# Altium integrated library Infineon_Power_Silicon_Carbide_(SiC).IntLib: 74 symbols (part 2 of 3)
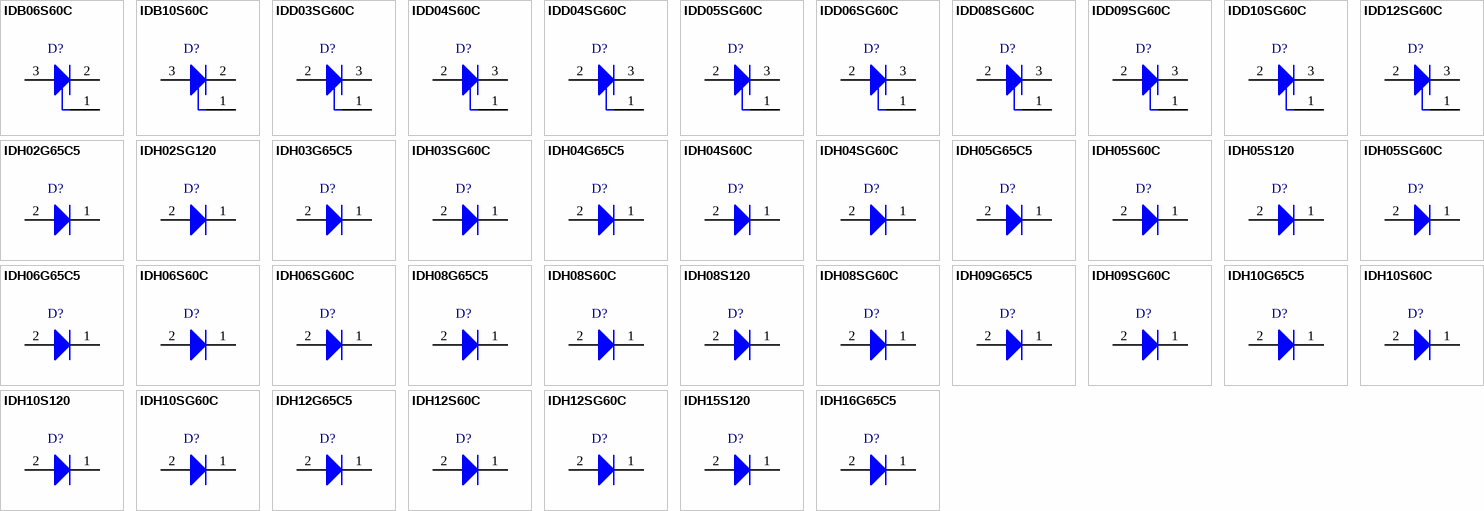
[diagram p3: symbols IDB06S60C to IDH16G65C5]

## IDH12G65C5
designator D?
5th Generation ThinQ SiC Schottky Diode, -55 to 175 degC, PG-TO220-2-1, Tube; Manufacturer: Infineon; PartNumber: IDH12G65C5; CT (typ): 360 pF; IF (typ): 12 A; IF,SM (max): 97 A; IR (max): 110 uA; Ptot (max): 104 W; QC (typ): 18 nC; RthJC (max): 1.5 K/W; VDC: 650 V; VF (typ): 1.5 V; DatasheetVersion: Rev. 2.2; PackageVersion: Rev. 01, 10/2008; PackageReference: PG-TO220-2-1; PackageDescription: 2-Pin Plastic (Green) Transistor Single Outline Package, Body 9.25 x 10 mm, Pitch 5.08 mm; Packing: Tube; Technology: thinQ! 5G; Mounting Technology: Through Hole; ComponentLink1Description: Manufacturer URL; ComponentLink1URL: http://www.infineon.com/; ComponentLink2Description: Datasheet; ComponentLink2URL: http://www.infineon.com/dgdl/IDH12G65C5_Final_Datasheet_v2_2.pdf?folderId=db3a30431ddc9372011ed0010fda1bd3&fileId=db3a30433a047ba0013a06bcacb10185; ComponentLink3Description: Package Specification; ComponentLink3URL: http://www.infineon.com/dgdl/IDP09E120_v2_3G%5B1%5D.pdf?folderId=db3a304314dca38901151224afae0c96&fileId=db3a30432313ff5e01237a7d849d7c11
footprint INF-PG-TO220-2-1 (FM, 2-Leads, Body 10x4.4mm, Pitch 5.08mm)
pins: 1 K, 2 A

## IDH12S60C
designator D?
2nd Generation ThinQ SiC Schottky Diode, -55 to 175 degC, PG-TO220-2-1, Tube,Green; Manufacturer: Infineon; PartNumber: IDH12S60C; CT (typ): 530 pF; IF (typ): 12 A; IF,SM (max): 98 A; IR (max): 160 uA; Ptot (max): 115 W; QC (typ): 30 nC; RthJC (max): 1.3 K/W; VDC: 600 V; VF (typ): 1.5 V; DatasheetVersion: Rev. 2.1; PackageVersion: Rev. 01, 10/2008; PackageReference: PG-TO220-2-1; PackageDescription: 2-Pin Plastic (Green) Transistor Single Outline Package, Body 9.25 x 10 mm, Pitch 5.08 mm; Supplier 1: Mouser; Supplier Part Number 1: 726-IDH12S60C; Supplier 2: Newark; Supplier Part Number 2: 12T7359; Supplier 3: Farnell; Supplier Part Number 3: 1844991; Supplier 4: Digi-Key; Supplier Part Number 4: IDH12S60C-ND; Packing: Tube; Technology: thinQ! 2G; Mounting Technology: Through Hole; ComponentLink1Description: Manufacturer URL; ComponentLink1URL: http://www.infineon.com/; ComponentLink2Description: Datasheet; ComponentLink2URL: http://www.infineon.com/dgdl/IDH12S60C+rev.2.1.pdf?folderId=db3a30431d8a6b3c011dbeca72db281a&fileId=db3a3043284aacd80128b06fc9935624; ComponentLink3Description: Package Specification; ComponentLink3URL: http://www.infineon.com/dgdl/IDP09E120_v2_3G%5B1%5D.pdf?folderId=db3a304314dca38901151224afae0c96&fileId=db3a30432313ff5e01237a7d849d7c11
footprint INF-PG-TO220-2-1 (FM, 2-Leads, Body 10x4.4mm, Pitch 5.08mm)
pins: 1 K, 2 A

## IDH12SG60C
designator D?
3rd Generation ThinQ SiC Schottky Diode, -55 to 175 degC, PG-TO220-2-1, Tube; Manufacturer: Infineon; PartNumber: IDH12SG60C; CT (typ): 310 pF; IF (typ): 12 A; IF,SM (max): 59 A; IR (max): 100 uA; Ptot (max): 125 W; QC (typ): 19 nC; RthJC (max): 1.2 K/W; VDC: 600 V; VF (typ): 1.8 V; DatasheetVersion: Rev. 2.3; PackageVersion: Rev. 01, 10/2008; PackageReference: PG-TO220-2-1; PackageDescription: 2-Pin Plastic (Green) Transistor Single Outline Package, Body 9.25 x 10 mm, Pitch 5.08 mm; Supplier 1: Mouser; Supplier Part Number 1: 726-IDH12SG60C; Supplier 2: Newark; Supplier Part Number 2: 22T5137; Supplier 3: Farnell; Supplier Part Number 3: 1854559; Supplier 4: Digi-Key; Supplier Part Number 4: IDH12SG60C-ND; Packing: Tube; Technology: thinQ! 3G; Mounting Technology: Through Hole; ComponentLink1Description: Manufacturer URL; ComponentLink1URL: http://www.infineon.com/; ComponentLink2Description: Datasheet; ComponentLink2URL: http://www.infineon.com/dgdl/IDH12SG60C_rev2.3.pdf?folderId=db3a304312bae05f0112bd10dab60002&fileId=db3a30431f848401011fad82e993468c; ComponentLink3Description: Package Specification; ComponentLink3URL: http://www.infineon.com/dgdl/IDP09E120_v2_3G%5B1%5D.pdf?folderId=db3a304314dca38901151224afae0c96&fileId=db3a30432313ff5e01237a7d849d7c11
footprint INF-PG-TO220-2-1 (FM, 2-Leads, Body 10x4.4mm, Pitch 5.08mm)
pins: 1 K, 2 A

## IDH15S120
designator D?
ThinQ SiC Schottky Diode, -55 to 175 degC, PG-TO220-2-1, Tube; Manufacturer: Infineon; PartNumber: IDH15S120; CT (typ): 750 pF; IF (typ): 15 A; IF,SM (max): 78 A; IR (max): 360 uA; Ptot (max): 187.5 W; QC (typ): 54 nC; RthJC (max): 0.8 K/W; VDC: 1,200 V; VF (typ): 1.65 V; DatasheetVersion: Rev. 2.0; PackageVersion: Rev. 01, 10/2008; PackageReference: PG-TO220-2-1; PackageDescription: 2-Pin Plastic (Green) Transistor Single Outline Package, Body 9.25 x 10 mm, Pitch 5.08 mm; Supplier 1: Mouser; Supplier Part Number 1: 726-IDH15S120; Supplier 2: Newark; Supplier Part Number 2: 12T7360; Supplier 3: Farnell; Supplier Part Number 3: 1844987; Supplier 4: Digi-Key; Supplier Part Number 4: IDH15S120-ND; Packing: Tube; Technology: thinQ! 2G; Mounting Technology: Through Hole; ComponentLink1Description: Manufacturer URL; ComponentLink1URL: http://www.infineon.com/; ComponentLink2Description: Datasheet; ComponentLink2URL: http://www.infineon.com/dgdl/IDH15S120_Rev2.pdf?folderId=db3a30431d8a6b3c011dbeca72db281a&fileId=db3a30431f848401011ff4d334dc532b; ComponentLink3Description: Package Specification; ComponentLink3URL: http://www.infineon.com/dgdl/IDP09E120_v2_3G%5B1%5D.pdf?folderId=db3a304314dca38901151224afae0c96&fileId=db3a30432313ff5e01237a7d849d7c11
footprint INF-PG-TO220-2-1 (FM, 2-Leads, Body 10x4.4mm, Pitch 5.08mm)
pins: 1 K, 2 A

## IDH16G65C5
designator D?
5th Generation ThinQ SiC Schottky Diode, -55 to 175 degC, PG-TO220-2-1, Tube, Green; Manufacturer: Infineon; PartNumber: IDH16G65C5; CT (typ): 470 pF; IF (typ): 16 A; IF,SM (max): 124 A; IR (max): 150 uA; Ptot (max): 129 W; QC (typ): 23 nC; RthJC (max): 1.2 K/W; VDC: 650 V; VF (typ): 1.5 V; DatasheetVersion: Rev. 2.2; PackageVersion: Rev. 01, 10/2008; PackageReference: PG-TO220-2-1; PackageDescription: 2-Pin Plastic (Green) Transistor Single Outline Package, Body 9.25 x 10 mm, Pitch 5.08 mm; Supplier 1: Digi-Key; Supplier Part Number 1: IDH16G65C5-ND; Packing: Tube; Technology: thinQ! 5G; Mounting Technology: Through Hole; ComponentLink1Description: Manufacturer URL; ComponentLink1URL: http://www.infineon.com/; ComponentLink2Description: Datasheet; ComponentLink2URL: http://www.infineon.com/dgdl/IDH16G65C5_Final_Datasheet_v2_2.pdf?folderId=db3a30431ddc9372011ed0010fda1bd3&fileId=db3a30433a047ba0013a06c7efb201a1; ComponentLink3Description: Package Specification; ComponentLink3URL: http://www.infineon.com/dgdl/IDP09E120_v2_3G%5B1%5D.pdf?folderId=db3a304314dca38901151224afae0c96&fileId=db3a30432313ff5e01237a7d849d7c11
footprint INF-PG-TO220-2-1 (FM, 2-Leads, Body 10x4.4mm, Pitch 5.08mm)
pins: 1 K, 2 A

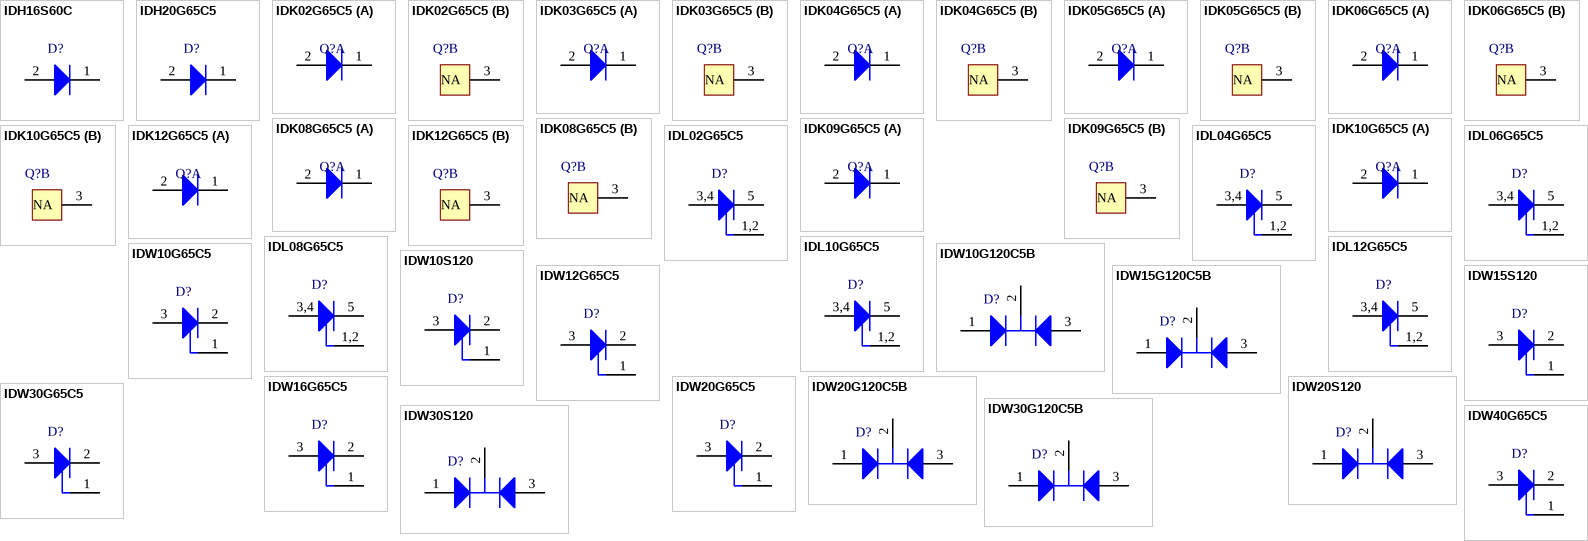
[diagram p1: symbols IDH16S60C to IDW40G65C5]

## IDH16S60C
designator D?
2nd Generation ThinQ SiC Schottky Diode, -55 to 175 degC, PG-TO220-2-1, Tube, Green; Manufacturer: Infineon; PartNumber: IDH16S60C; CT (typ): 650 pF; IF (typ): 16 A; IF,SM (max): 118 A; IR (max): 200 uA; Ptot (max): 136 W; QC (typ): 38 nC; RthJC (max): 1.1 K/W; VDC: 600 V; VF (typ): 1.5 V; DatasheetVersion: Rev. 2.1; PackageVersion: Rev. 01, 10/2008; PackageReference: PG-TO220-2-1; PackageDescription: 2-Pin Plastic (Green) Transistor Single Outline Package, Body 9.25 x 10 mm, Pitch 5.08 mm; Supplier 1: Mouser; Supplier Part Number 1: 726-IDH16S60C; Supplier 2: Newark; Supplier Part Number 2: 12T7361; Supplier 3: Farnell; Supplier Part Number 3: 1844992; Supplier 4: Digi-Key; Supplier Part Number 4: IDH16S60C-ND; Packing: Tube; Technology: thinQ! 2G; Mounting Technology: Through Hole; ComponentLink1Description: Manufacturer URL; ComponentLink1URL: http://www.infineon.com/; ComponentLink2Description: Datasheet; ComponentLink2URL: http://www.infineon.com/dgdl/IDH16S60C+rev.2.1.pdf?folderId=db3a30431d8a6b3c011dbeca72db281a&fileId=db3a3043284aacd80128b08bbbbc5635; ComponentLink3Description: Package Specification; ComponentLink3URL: http://www.infineon.com/dgdl/IDP09E120_v2_3G%5B1%5D.pdf?folderId=db3a304314dca38901151224afae0c96&fileId=db3a30432313ff5e01237a7d849d7c11
footprint INF-PG-TO220-2-1 (FM, 2-Leads, Body 10x4.4mm, Pitch 5.08mm)
pins: 1 K, 2 A

## IDH20G65C5
designator D?
5th Generation ThinQ SiC Schottky Diode, -55 to 175 degC, PG-TO220-2-1, Tube, Green; Manufacturer: Infineon; PartNumber: IDH20G65C5; CT (typ): 590 pF; IF (typ): 20 A; IF,SM (max): 142 A; IR (max): 190 uA; Ptot (max): 157 W; QC (typ): 29 nC; RthJC (max): 1 K/W; VDC: 650 V; VF (typ): 1.5 V; DatasheetVersion: Rev. 2.2; PackageVersion: Rev. 01, 10/2008; PackageReference: PG-TO220-2-1; PackageDescription: 2-Pin Plastic (Green) Transistor Single Outline Package, Body 9.25 x 10 mm, Pitch 5.08 mm; Supplier 1: Digi-Key; Supplier Part Number 1: IDH20G65C5-ND; Packing: Tube; Technology: thinQ! 5G; Mounting Technology: Through Hole; ComponentLink1Description: Manufacturer URL; ComponentLink1URL: http://www.infineon.com/; ComponentLink2Description: Datasheet; ComponentLink2URL: http://www.infineon.com/dgdl/IDH20G65C5_Final_Datasheet_v2_2.pdf?folderId=db3a30431ddc9372011ed0010fda1bd3&fileId=db3a30433a047ba0013a06d5f79701c6; ComponentLink3Description: Package Specification; ComponentLink3URL: http://www.infineon.com/dgdl/IDP09E120_v2_3G%5B1%5D.pdf?folderId=db3a304314dca38901151224afae0c96&fileId=db3a30432313ff5e01237a7d849d7c11
footprint INF-PG-TO220-2-1 (FM, 2-Leads, Body 10x4.4mm, Pitch 5.08mm)
pins: 1 K, 2 A

## IDK02G65C5
designator Q?
5th Generation thinQ!(TM) SiC Schottky Diode, 650 V VDC, 2 A IF, -55 to 175 degC, PG-TO263-2, Reel, Green; Manufacturer: Infineon; PartNumber: IDK02G65C5; CT (typ): 70 pF; Green: TRUE; IF (typ): 2 A; IF,SM (max): 23 A; IR (max): 330 uA; Ptot (max): 36 W; QC (typ): 4 nC; RthJC (max): 4.2 K/W; VDC: 650 V; VF (typ): 1.5 V; DatasheetVersion: Rev. 2.0; PackageVersion: Rev. 02, 05/2013; PackageReference: PG-TO263-2; PackageDescription: 2-Pin Plastic (Green) Transistor Single Outline Package, 10 x 9.25 mm Body; Supplier 1: Mouser; Supplier Part Number 1: N/A; Halogen-free: TRUE; Packing: Reel; Technology: thinQ!(TM) 5G (SiC-Schottky); Mounting Technology: Surface Mount; ComponentLink1Description: Manufacturer URL; ComponentLink1URL: http://www.infineon.com/; ComponentLink2Description: Datasheet; ComponentLink2URL: http://www.infineon.com/dgdl/IDK02G65C5_Final_Data_Sheet.pdf?folderId=db3a30431d8a6b3c011dbeca72db281a&fileId=db3a304342c787030142e6f880f921bd; ComponentLink3Description: Package Specification; ComponentLink3URL: http://www.infineon.com/dgdl/IDK12G65C5_Final_Data_Sheet.pdf?folderId=db3a30431d8a6b3c011dbeca72db281a&fileId=db3a304342e8be2c0142fc0b73ae4ef3
footprint INF-PG-TO263-2_V (DPAK, 3-Leads, Body 10x9.25mm)
part A pins: 1 C, 2 A
part B pins: 3 NA

## IDK03G65C5
designator Q?
5th Generation thinQ!(TM) SiC Schottky Diode, 650 V VDC, 3 A IF, -55 to 175 degC, PG-TO263-2, Reel, Green; Manufacturer: Infineon; PartNumber: IDK03G65C5; CT (typ): 100 pF; Green: TRUE; IF (typ): 3 A; IF,SM (max): 31 A; IR (max): 500 uA; Ptot (max): 42 W; QC (typ): 5 nC; RthJC (max): 3.6 K/W; VDC: 650 V; VF (typ): 1.5 V; DatasheetVersion: Rev. 2.0; PackageVersion: Rev. 02, 05/2013; PackageReference: PG-TO263-2; PackageDescription: 2-Pin Plastic (Green) Transistor Single Outline Package, 10 x 9.25 mm Body; Supplier 1: Mouser; Supplier Part Number 1: N/A; Halogen-free: TRUE; Packing: Reel; Technology: thinQ!(TM) 5G (SiC-Schottky); Mounting Technology: Surface Mount; ComponentLink1Description: Manufacturer URL; ComponentLink1URL: http://www.infineon.com/; ComponentLink2Description: Datasheet; ComponentLink2URL: http://www.infineon.com/dgdl/IDK03G65C5_Final_Data_Sheet.pdf?folderId=db3a30431d8a6b3c011dbeca72db281a&fileId=db3a304342e8be2c0142eb7618470089; ComponentLink3Description: Package Specification; ComponentLink3URL: http://www.infineon.com/dgdl/IDK12G65C5_Final_Data_Sheet.pdf?folderId=db3a30431d8a6b3c011dbeca72db281a&fileId=db3a304342e8be2c0142fc0b73ae4ef3
footprint INF-PG-TO263-2_V (DPAK, 3-Leads, Body 10x9.25mm)
part A pins: 1 C, 2 A
part B pins: 3 NA

## IDK04G65C5
designator Q?
5th Generation thinQ!(TM) SiC Schottky Diode, 650 V VDC, 4 A IF, -55 to 175 degC, PG-TO263-2, Reel, Green; Manufacturer: Infineon; PartNumber: IDK04G65C5; CT (typ): 130 pF; Green: TRUE; IF (typ): 4 A; IF,SM (max): 38 A; IR (max): 670 uA; Ptot (max): 48 W; QC (typ): 7 nC; RthJC (max): 3.1 K/W; VDC: 650 V; VF (typ): 1.5 V; DatasheetVersion: Rev. 2.0; PackageVersion: Rev. 02, 05/2013; PackageReference: PG-TO263-2; PackageDescription: 2-Pin Plastic (Green) Transistor Single Outline Package, 10 x 9.25 mm Body; Supplier 1: Mouser; Supplier Part Number 1: N/A; Halogen-free: TRUE; Packing: Reel; Technology: thinQ!(TM) 5G (SiC-Schottky); Mounting Technology: Surface Mount; ComponentLink1Description: Manufacturer URL; ComponentLink1URL: http://www.infineon.com/; ComponentLink2Description: Datasheet; ComponentLink2URL: http://www.infineon.com/dgdl/IDK04G65C5_Final_Data_Sheet.pdf?folderId=db3a30431d8a6b3c011dbeca72db281a&fileId=db3a304342e8be2c0142eb938e7500a4; ComponentLink3Description: Package Specification; ComponentLink3URL: http://www.infineon.com/dgdl/IDK12G65C5_Final_Data_Sheet.pdf?folderId=db3a30431d8a6b3c011dbeca72db281a&fileId=db3a304342e8be2c0142fc0b73ae4ef3
footprint INF-PG-TO263-2_V (DPAK, 3-Leads, Body 10x9.25mm)
part A pins: 1 C, 2 A
part B pins: 3 NA

## IDK05G65C5
designator Q?
5th Generation thinQ!(TM) SiC Schottky Diode, 650 V VDC, 5 A IF, -55 to 175 degC, PG-TO263-2, Reel, Green; Manufacturer: Infineon; PartNumber: IDK05G65C5; CT (typ): 160 pF; Green: TRUE; IF (typ): 5 A; IF,SM (max): 46 A; IR (max): 830 uA; Ptot (max): 55 W; QC (typ): 8 nC; RthJC (max): 2.7 K/W; VDC: 650 V; VF (typ): 1.5 V; DatasheetVersion: Rev. 2.0; PackageVersion: Rev. 02, 05/2013; PackageReference: PG-TO263-2; PackageDescription: 2-Pin Plastic (Green) Transistor Single Outline Package, 10 x 9.25 mm Body; Supplier 1: Mouser; Supplier Part Number 1: N/A; Halogen-free: TRUE; Packing: Reel; Technology: thinQ!(TM) 5G (SiC-Schottky); Mounting Technology: Surface Mount; ComponentLink1Description: Manufacturer URL; ComponentLink1URL: http://www.infineon.com/; ComponentLink2Description: Datasheet; ComponentLink2URL: http://www.infineon.com/dgdl/IDK05G65C5_Final_Data_Sheet.pdf?folderId=db3a30431d8a6b3c011dbeca72db281a&fileId=db3a304342e8be2c0142ec794447014e; ComponentLink3Description: Package Specification; ComponentLink3URL: http://www.infineon.com/dgdl/IDK12G65C5_Final_Data_Sheet.pdf?folderId=db3a30431d8a6b3c011dbeca72db281a&fileId=db3a304342e8be2c0142fc0b73ae4ef3
footprint INF-PG-TO263-2_V (DPAK, 3-Leads, Body 10x9.25mm)
part A pins: 1 C, 2 A
part B pins: 3 NA

## IDK06G65C5
designator Q?
5th Generation thinQ!(TM) SiC Schottky Diode, 650 V VDC, 6 A IF, -55 to 175 degC, PG-TO263-2, Reel, Green; Manufacturer: Infineon; PartNumber: IDK06G65C5; CT (typ): 190 pF; Green: TRUE; IF (typ): 6 A; IF,SM (max): 54 A; IR (max): 1100 uA; Ptot (max): 62 W; QC (typ): 10 nC; RthJC (max): 2.4 K/W; VDC: 650 V; VF (typ): 1.5 V; DatasheetVersion: Rev. 2.0; PackageVersion: Rev. 02, 05/2013; PackageReference: PG-TO263-2; PackageDescription: 2-Pin Plastic (Green) Transistor Single Outline Package, 10 x 9.25 mm Body; Supplier 1: Mouser; Supplier Part Number 1: N/A; Halogen-free: TRUE; Packing: Reel; Technology: thinQ!(TM) 5G (SiC-Schottky); Mounting Technology: Surface Mount; ComponentLink1Description: Manufacturer URL; ComponentLink1URL: http://www.infineon.com/; ComponentLink2Description: Datasheet; ComponentLink2URL: http://www.infineon.com/dgdl/IDK06G65C5_Final_Data_Sheet.pdf?folderId=db3a30431d8a6b3c011dbeca72db281a&fileId=db3a304342e8be2c0142ec85d5a1016a; ComponentLink3Description: Package Specification; ComponentLink3URL: http://www.infineon.com/dgdl/IDK12G65C5_Final_Data_Sheet.pdf?folderId=db3a30431d8a6b3c011dbeca72db281a&fileId=db3a304342e8be2c0142fc0b73ae4ef3
footprint INF-PG-TO263-2_V (DPAK, 3-Leads, Body 10x9.25mm)
part A pins: 1 C, 2 A
part B pins: 3 NA

## IDK08G65C5
designator Q?
5th Generation thinQ!(TM) SiC Schottky Diode, 650 V VDC, 8 A IF, -55 to 175 degC, PG-TO263-2, Reel, Green; Manufacturer: Infineon; PartNumber: IDK08G65C5; CT (typ): 250 pF; Green: TRUE; IF (typ): 8 A; IF,SM (max): 68 A; IR (max): 1400 uA; Ptot (max): 76 W; QC (typ): 13 nC; RthJC (max): 2 K/W; VDC: 650 V; VF (typ): 1.5 V; DatasheetVersion: Rev. 2.0; PackageVersion: Rev. 02, 05/2013; PackageReference: PG-TO263-2; PackageDescription: 2-Pin Plastic (Green) Transistor Single Outline Package, 10 x 9.25 mm Body; Supplier 1: Mouser; Supplier Part Number 1: N/A; Halogen-free: TRUE; Packing: Reel; Technology: thinQ!(TM) 5G (SiC-Schottky); Mounting Technology: Surface Mount; ComponentLink1Description: Manufacturer URL; ComponentLink1URL: http://www.infineon.com/; ComponentLink2Description: Datasheet; ComponentLink2URL: http://www.infineon.com/dgdl/IDK08G65C5_Final_Data_Sheet.pdf?folderId=db3a30431d8a6b3c011dbeca72db281a&fileId=db3a304342e8be2c0142fb993f814e2e; ComponentLink3Description: Package Specification; ComponentLink3URL: http://www.infineon.com/dgdl/IDK12G65C5_Final_Data_Sheet.pdf?folderId=db3a30431d8a6b3c011dbeca72db281a&fileId=db3a304342e8be2c0142fc0b73ae4ef3
footprint INF-PG-TO263-2_V (DPAK, 3-Leads, Body 10x9.25mm)
part A pins: 1 C, 2 A
part B pins: 3 NA

## IDK09G65C5
designator Q?
5th Generation thinQ!(TM) SiC Schottky Diode, 650 V VDC, 9 A IF, -55 to 175 degC, PG-TO263-2, Reel, Green; Manufacturer: Infineon; PartNumber: IDK09G65C5; CT (typ): 270 pF; Green: TRUE; IF (typ): 9 A; IF,SM (max): 75 A; IR (max): 1600 uA; Ptot (max): 82 W; QC (typ): 14 nC; RthJC (max): 1.8 K/W; VDC: 650 V; VF (typ): 1.5 V; DatasheetVersion: Rev. 2.0; PackageVersion: Rev. 02, 05/2013; PackageReference: PG-TO263-2; PackageDescription: 2-Pin Plastic (Green) Transistor Single Outline Package, 10 x 9.25 mm Body; Supplier 1: Mouser; Supplier Part Number 1: N/A; Halogen-free: TRUE; Packing: Reel; Technology: thinQ!(TM) 5G (SiC-Schottky); Mounting Technology: Surface Mount; ComponentLink1Description: Manufacturer URL; ComponentLink1URL: http://www.infineon.com/; ComponentLink2Description: Datasheet; ComponentLink2URL: http://www.infineon.com/dgdl/IDK09G65C5_Final_Data_Sheet.pdf?folderId=db3a30431d8a6b3c011dbeca72db281a&fileId=db3a304342e8be2c0142fbaec0384e59; ComponentLink3Description: Package Specification; ComponentLink3URL: http://www.infineon.com/dgdl/IDK12G65C5_Final_Data_Sheet.pdf?folderId=db3a30431d8a6b3c011dbeca72db281a&fileId=db3a304342e8be2c0142fc0b73ae4ef3
footprint INF-PG-TO263-2_V (DPAK, 3-Leads, Body 10x9.25mm)
part A pins: 1 C, 2 A
part B pins: 3 NA

## IDK10G65C5
designator Q?
5th Generation thinQ!(TM) SiC Schottky Diode, 650 V VDC, 10 A IF, -55 to 175 degC, PG-TO263-2, Reel, Green; Manufacturer: Infineon; PartNumber: IDK10G65C5; CT (typ): 300 pF; Green: TRUE; IF (typ): 10 A; IF,SM (max): 82 A; IR (max): 1700 uA; Ptot (max): 89 W; QC (typ): 15 nC; RthJC (max): 1.7 K/W; VDC: 650 V; VF (typ): 1.5 V; DatasheetVersion: Rev. 2.0; PackageVersion: Rev. 02, 05/2013; PackageReference: PG-TO263-2; PackageDescription: 2-Pin Plastic (Green) Transistor Single Outline Package, 10 x 9.25 mm Body; Supplier 1: Mouser; Supplier Part Number 1: N/A; Halogen-free: TRUE; Packing: Reel; Technology: thinQ!(TM) 5G (SiC-Schottky); Mounting Technology: Surface Mount; ComponentLink1Description: Manufacturer URL; ComponentLink1URL: http://www.infineon.com/; ComponentLink2Description: Datasheet; ComponentLink2URL: http://www.infineon.com/dgdl/IDK10G65C5_Final_Data_Sheet.pdf?folderId=db3a30431d8a6b3c011dbeca72db281a&fileId=db3a304342e8be2c0142fbfb87cd4ed3; ComponentLink3Description: Package Specification; ComponentLink3URL: http://www.infineon.com/dgdl/IDK12G65C5_Final_Data_Sheet.pdf?folderId=db3a30431d8a6b3c011dbeca72db281a&fileId=db3a304342e8be2c0142fc0b73ae4ef3
footprint INF-PG-TO263-2_V (DPAK, 3-Leads, Body 10x9.25mm)
part A pins: 1 C, 2 A
part B pins: 3 NA

## IDK12G65C5
designator Q?
5th Generation thinQ!(TM) SiC Schottky Diode, 650 V VDC, 12 A IF, -55 to 175 degC, PG-TO263-2, Reel, Green; Manufacturer: Infineon; PartNumber: IDK12G65C5; CT (typ): 360 pF; Green: TRUE; IF (typ): 12 A; IF,SM (max): 97 A; IR (max): 2100 uA; Ptot (max): 104 W; QC (typ): 18 nC; RthJC (max): 1.5 K/W; VDC: 650 V; VF (typ): 1.5 V; DatasheetVersion: Rev. 2.0; PackageVersion: Rev. 02, 05/2013; PackageReference: PG-TO263-2; PackageDescription: 2-Pin Plastic (Green) Transistor Single Outline Package, 10 x 9.25 mm Body; Supplier 1: Mouser; Supplier Part Number 1: N/A; Halogen-free: TRUE; Packing: Reel; Technology: thinQ!(TM) 5G (SiC-Schottky); Mounting Technology: Surface Mount; ComponentLink1Description: Manufacturer URL; ComponentLink1URL: http://www.infineon.com/; ComponentLink2Description: Datasheet; ComponentLink2URL: http://www.infineon.com/dgdl/IDK12G65C5_Final_Data_Sheet.pdf?folderId=db3a30431d8a6b3c011dbeca72db281a&fileId=db3a304342e8be2c0142fc0b73ae4ef3; ComponentLink3Description: Package Specification; ComponentLink3URL: http://www.infineon.com/dgdl/IDK12G65C5_Final_Data_Sheet.pdf?folderId=db3a30431d8a6b3c011dbeca72db281a&fileId=db3a304342e8be2c0142fc0b73ae4ef3
footprint INF-PG-TO263-2_V (DPAK, 3-Leads, Body 10x9.25mm)
part A pins: 1 C, 2 A
part B pins: 3 NA

## IDL02G65C5
designator D?
5th Generation thinQ!(TM) SiC Schottky Diode, 650 V VDC, 2 A IF, -55 to 150 degC, PG-VSON-4, Reel, Green; Manufacturer: Infineon; PartNumber: IDL02G65C5; CT (typ): 70 pF; Green: TRUE; IF (typ): 2 A; IF,SM (max): 21 A; IR (max): 35 uA; Ptot (max): 46 W; QC (typ): 4 nC; RthJC (max): 2.7 K/W; VDC: 650 V; VF (typ): 1.5 V; DatasheetVersion: Rev. 2.0; PackageVersion: Rev. 01, 04/2010; PackageReference: PG-VSON-4_A; PackageDescription: 4-Pin Plastic (Green) Small Outline Non-Leaded Package, 8 x 8 mm Body, 2 mm Pitch; Supplier 1: Mouser; Supplier Part Number 1: N/A; Halogen-free: TRUE; Packing: Reel; Technology: thinQ!(TM) 5G (SiC-Schottky); Mounting Technology: Surface Mount; ComponentLink1Description: Manufacturer URL; ComponentLink1URL: http://www.infineon.com/; ComponentLink2Description: Datasheet; ComponentLink2URL: http://www.infineon.com/dgdl/2013_12_05_IDL02G65C5_Final_Datasheet_VS.pdf?folderId=db3a30431d8a6b3c011dbeca72db281a&fileId=db3a304342e8be2c0142ffd4f05a141d; ComponentLink3Description: Package Specification; ComponentLink3URL: http://www.infineon.com/dgdl/2013_12_05_IDL12G65C5_Target_Datasheet.pdf?folderId=db3a30431d8a6b3c011dbeca72db281a&fileId=db3a304342e8be2c014305242a5d5c28
footprint INF-PG-VSON-4_A_V (VSON, 4-Leads, Body 8x8mm, Pitch 2mm, Thermal Pad 7.2x4.75mm)
pins: 1 NC, 2 NC, 3 A, 4 A, 5 K
text: 3,4; 1,2

## IDL04G65C5
designator D?
5th Generation thinQ!(TM) SiC Schottky Diode, 650 V VDC, 4 A IF, -55 to 150 degC, PG-VSON-4, Reel, Green; Manufacturer: Infineon; PartNumber: IDL04G65C5; CT (typ): 130 pF; Green: TRUE; IF (typ): 4 A; IF,SM (max): 29 A; IR (max): 70 uA; Ptot (max): 62 W; QC (typ): 7 nC; RthJC (max): 2 K/W; VDC: 650 V; VF (typ): 1.5 V; DatasheetVersion: Rev. 2.0; PackageVersion: Rev. 01, 04/2010; PackageReference: PG-VSON-4_A; PackageDescription: 4-Pin Plastic (Green) Small Outline Non-Leaded Package, 8 x 8 mm Body, 2 mm Pitch; Supplier 1: Mouser; Supplier Part Number 1: N/A; Halogen-free: TRUE; Packing: Reel; Technology: thinQ!(TM) 5G (SiC-Schottky); Mounting Technology: Surface Mount; ComponentLink1Description: Manufacturer URL; ComponentLink1URL: http://www.infineon.com/; ComponentLink2Description: Datasheet; ComponentLink2URL: http://www.infineon.com/dgdl/2013_12_05_IDL04G65C5_Final_Datasheet_VS.pdf?folderId=db3a30431d8a6b3c011dbeca72db281a&fileId=db3a304342e8be2c0143000fb94c146a; ComponentLink3Description: Package Specification; ComponentLink3URL: http://www.infineon.com/dgdl/2013_12_05_IDL12G65C5_Target_Datasheet.pdf?folderId=db3a30431d8a6b3c011dbeca72db281a&fileId=db3a304342e8be2c014305242a5d5c28
footprint INF-PG-VSON-4_A_V (VSON, 4-Leads, Body 8x8mm, Pitch 2mm, Thermal Pad 7.2x4.75mm)
pins: 1 NC, 2 NC, 3 A, 4 A, 5 K
text: 3,4; 1,2

## IDL06G65C5
designator D?
5th Generation thinQ!(TM) SiC Schottky Diode, 650 V VDC, 6 A IF, -55 to 150 degC, PG-VSON-4, Reel, Green; Manufacturer: Infineon; PartNumber: IDL06G65C5; CT (typ): 190 pF; Green: TRUE; IF (typ): 6 A; IF,SM (max): 36 A; IR (max): 110 uA; Ptot (max): 78 W; QC (typ): 10 nC; RthJC (max): 1.6 K/W; VDC: 650 V; VF (typ): 1.5 V; DatasheetVersion: Rev. 2.0; PackageVersion: Rev. 01, 04/2010; PackageReference: PG-VSON-4_A; PackageDescription: 4-Pin Plastic (Green) Small Outline Non-Leaded Package, 8 x 8 mm Body, 2 mm Pitch; Supplier 1: Mouser; Supplier Part Number 1: N/A; Halogen-free: TRUE; Packing: Reel; Technology: thinQ!(TM) 5G (SiC-Schottky); Mounting Technology: Surface Mount; ComponentLink1Description: Manufacturer URL; ComponentLink1URL: http://www.infineon.com/; ComponentLink2Description: Datasheet; ComponentLink2URL: http://www.infineon.com/dgdl/2013_12_05_IDL06G65C5_Final_Datasheet_VS.pdf?folderId=db3a30431d8a6b3c011dbeca72db281a&fileId=db3a304342e8be2c014304ea9ff45bcc; ComponentLink3Description: Package Specification; ComponentLink3URL: http://www.infineon.com/dgdl/2013_12_05_IDL12G65C5_Target_Datasheet.pdf?folderId=db3a30431d8a6b3c011dbeca72db281a&fileId=db3a304342e8be2c014305242a5d5c28
footprint INF-PG-VSON-4_A_V (VSON, 4-Leads, Body 8x8mm, Pitch 2mm, Thermal Pad 7.2x4.75mm)
pins: 1 NC, 2 NC, 3 A, 4 A, 5 K
text: 3,4; 1,2

## IDL08G65C5
designator D?
5th Generation thinQ!(TM) SiC Schottky Diode, 650 V VDC, 8 A IF, -55 to 150 degC, PG-VSON-4, Reel, Green; Manufacturer: Infineon; PartNumber: IDL08G65C5; CT (typ): 250 pF; Green: TRUE; IF (typ): 8 A; IF,SM (max): 43 A; IR (max): 140 uA; Ptot (max): 96 W; QC (typ): 13 nC; RthJC (max): 1.3 K/W; VDC: 650 V; VF (typ): 1.5 V; DatasheetVersion: Rev. 2.0; PackageVersion: Rev. 01, 04/2010; PackageReference: PG-VSON-4_A; PackageDescription: 4-Pin Plastic (Green) Small Outline Non-Leaded Package, 8 x 8 mm Body, 2 mm Pitch; Supplier 1: Mouser; Supplier Part Number 1: N/A; Halogen-free: TRUE; Packing: Reel; Technology: thinQ!(TM) 5G (SiC-Schottky); Mounting Technology: Surface Mount; ComponentLink1Description: Manufacturer URL; ComponentLink1URL: http://www.infineon.com/; ComponentLink2Description: Datasheet; ComponentLink2URL: http://www.infineon.com/dgdl/2013_12_05_IDL08G65C5_Final_Datasheet_VS.pdf?folderId=db3a30431d8a6b3c011dbeca72db281a&fileId=db3a304342e8be2c014304f77a235be9; ComponentLink3Description: Package Specification; ComponentLink3URL: http://www.infineon.com/dgdl/2013_12_05_IDL12G65C5_Target_Datasheet.pdf?folderId=db3a30431d8a6b3c011dbeca72db281a&fileId=db3a304342e8be2c014305242a5d5c28
footprint INF-PG-VSON-4_A_V (VSON, 4-Leads, Body 8x8mm, Pitch 2mm, Thermal Pad 7.2x4.75mm)
pins: 1 NC, 2 NC, 3 A, 4 A, 5 K
text: 3,4; 1,2

## IDL10G65C5
designator D?
5th Generation thinQ!(TM) SiC Schottky Diode, 650 V VDC, 10 A IF, -55 to 150 degC, PG-VSON-4, Reel, Green; Manufacturer: Infineon; PartNumber: IDL10G65C5; CT (typ): 300 pF; Green: TRUE; IF (typ): 10 A; IF,SM (max): 50 A; IR (max): 180 uA; Ptot (max): 113 W; QC (typ): 15 nC; RthJC (max): 1.1 K/W; VDC: 650 V; VF (typ): 1.5 V; DatasheetVersion: Rev. 2.0; PackageVersion: Rev. 01, 04/2010; PackageReference: PG-VSON-4_A; PackageDescription: 4-Pin Plastic (Green) Small Outline Non-Leaded Package, 8 x 8 mm Body, 2 mm Pitch; Supplier 1: Mouser; Supplier Part Number 1: N/A; Halogen-free: TRUE; Packing: Reel; Technology: thinQ!(TM) 5G (SiC-Schottky); Mounting Technology: Surface Mount; ComponentLink1Description: Manufacturer URL; ComponentLink1URL: http://www.infineon.com/; ComponentLink2Description: Datasheet; ComponentLink2URL: http://www.infineon.com/dgdl/2013_12_05_IDL10G65C5_Final_Datasheet_VS.pdf?folderId=db3a30431d8a6b3c011dbeca72db281a&fileId=db3a304342e8be2c0143050c02185c06; ComponentLink3Description: Package Specification; ComponentLink3URL: http://www.infineon.com/dgdl/2013_12_05_IDL12G65C5_Target_Datasheet.pdf?folderId=db3a30431d8a6b3c011dbeca72db281a&fileId=db3a304342e8be2c014305242a5d5c28
footprint INF-PG-VSON-4_A_V (VSON, 4-Leads, Body 8x8mm, Pitch 2mm, Thermal Pad 7.2x4.75mm)
pins: 1 NC, 2 NC, 3 A, 4 A, 5 K
text: 3,4; 1,2

## IDL12G65C5
designator D?
5th Generation thinQ!(TM) SiC Schottky Diode, 650 V VDC, 12 A IF, -55 to 150 degC, PG-VSON-4, Reel, Green; Manufacturer: Infineon; PartNumber: IDL12G65C5; CT (typ): 360 pF; Green: TRUE; IF (typ): 12 A; IF,SM (max): 57 A; IR (max): 190 uA; Ptot (max): 138 W; QC (typ): 18 nC; RthJC (max): 0.9 K/W; VDC: 650 V; VF (typ): 1.5 V; DatasheetVersion: Rev. 2.0; PackageVersion: Rev. 01, 04/2010; PackageReference: PG-VSON-4_A; PackageDescription: 4-Pin Plastic (Green) Small Outline Non-Leaded Package, 8 x 8 mm Body, 2 mm Pitch; Supplier 1: Mouser; Supplier Part Number 1: N/A; Halogen-free: TRUE; Packing: Reel; Technology: thinQ!(TM) 5G (SiC-Schottky); Mounting Technology: Surface Mount; ComponentLink1Description: Manufacturer URL; ComponentLink1URL: http://www.infineon.com/; ComponentLink2Description: Datasheet; ComponentLink2URL: http://www.infineon.com/dgdl/2013_12_05_IDL12G65C5_Target_Datasheet.pdf?folderId=db3a30431d8a6b3c011dbeca72db281a&fileId=db3a304342e8be2c014305242a5d5c28; ComponentLink3Description: Package Specification; ComponentLink3URL: http://www.infineon.com/dgdl/2013_12_05_IDL12G65C5_Target_Datasheet.pdf?folderId=db3a30431d8a6b3c011dbeca72db281a&fileId=db3a304342e8be2c014305242a5d5c28
footprint INF-PG-VSON-4_A_V (VSON, 4-Leads, Body 8x8mm, Pitch 2mm, Thermal Pad 7.2x4.75mm)
pins: 1 NC, 2 NC, 3 A, 4 A, 5 K
text: 3,4; 1,2

## IDW10G65C5
designator D?
5th Generation ThinQ SiC Silicon Carbide Diode, -55 to 175 degC, PG-TO247-3-44, Tube, Green; Manufacturer: Infineon; PartNumber: IDW10G65C5; CT (typ): 300 pF; IF (typ): 10 A; IF,SM (max): 58 A; IR (max): 90 uA; Ptot (max): 65 W; QC (typ): 15 nC; RthJC (max): 2.3 K/W; VDC: 650 V; VF (typ): 1.5 V; DatasheetVersion: Rev. 2.2; PackageVersion: Rev. 05, 07/2010; PackageReference: PG-TO247-3-44_A; PackageDescription: 3-Pin Plastic (Green) Transistor Single Outline Package, Body 15.915 x 20.95 mm, Pitch 5.44 mm; Supplier 1: Digi-Key; Supplier Part Number 1: IDW10G65C5-ND; Packing: Tube; Technology: thinQ! 5G; Mounting Technology: Through Hole; ComponentLink1Description: Manufacturer URL; ComponentLink1URL: http://www.infineon.com/; ComponentLink2Description: Datasheet; ComponentLink2URL: http://www.infineon.com/dgdl/IDW10G65C5_Final_Datasheet_v2_2.pdf?folderId=db3a304314dca38901151224afae0c96&fileId=db3a304339dcf4b10139fc597c6800fc; ComponentLink3Description: Package Specification; ComponentLink3URL: http://www.infineon.com/dgdl/IDW10S120_Rev+2.pdf?folderId=db3a304314dca38901151224afae0c96&fileId=db3a304336724dc40136789691a04aa5
footprint INF-PG-TO247-3-44_A (FM, 3-Leads, Body 15.915x5.02mm, Pitch 5.44mm)
pins: 1 NC, 2 K, 3 A

## IDW10G120C5B
designator D?
5th Generation thinQ!(TM) SiC Schottky Diode, 1200 V VDC, 5 / 10 A IF, -55 to 175 degC, PG-TO247-3, Tube, Green; Manufacturer: Infineon; PartNumber: IDW10G120C5B; CT (typ): 365 / 730 pF; Green: TRUE; IF (typ): 5 / 10 A; IF,SM (max): 70 / 140 A; IR (max): 40 / 80 uA; Ptot (max): 74 / 148 W; QC (typ): 28 / 57 nC; RthJC (max): 2 / 1 K/W; VDC: 1,200 V; VF (typ): 1.4 V; DatasheetVersion: Rev. 2.0; PackageVersion: Oct-08; PackageReference: PG-TO247-3-21; PackageDescription: 3-Pin Plastic (Green) Transistor Single Outline Package, 15.87 x 20.96 mm Body, 5.44 mm Pitch; Halogen-free: TRUE; Packing: Tube; Technology: thinQ!(TM) 5G (SiC-Schottky); Mounting Technology: Through Hole; ComponentLink1Description: Manufacturer URL; ComponentLink1URL: http://www.infineon.com/; ComponentLink2Description: Datasheet; ComponentLink2URL: http://www.infineon.com/dgdl/20140610_IDW10G120C5_Final_Data_sheet.pdf?folderId=db3a304314dca38901151224afae0c96&fileId=5546d461464245d30146952e63f869aa; ComponentLink3Description: Package Specification; ComponentLink3URL: http://www.infineon.com/dgdl/PG-TO247-3-21-Package_Overview.pdf?folderId=db3a30431c69a49d011cd7f31bc41373&fileId=db3a30431c69a49d011cd7f9c0791388
footprint INF-PG-TO247-3-21 (FM, 3-Leads, Body 5.03x15.9mm, Pitch 5.45mm)
pins: 1 A, 2 K, 3 A

## IDW10S120
designator D?
ThinQ SiC Schottky Diode, -55 to 175 degC, PG-TO247-3-44, Tube, Green; Manufacturer: Infineon; PartNumber: IDW10S120; CT (typ): 580 pF; IF (typ): 10 A; IF,SM (max): 53 A; IR (max): 240 uA; Ptot (max): 115 W; QC (typ): 36 nC; RthJC (max): 1.3 K/W; VDC: 1,200 V; VF (typ): 1.5 V; DatasheetVersion: Rev. 2.0; PackageVersion: Rev. 05, 07/2010; PackageReference: PG-TO247-3-44_A; PackageDescription: 3-Pin Plastic (Green) Transistor Single Outline Package, Body 15.915 x 20.95 mm, Pitch 5.44 mm; Packing: Tube; Technology: thinQ! 2G; Mounting Technology: Through Hole; ComponentLink1Description: Manufacturer URL; ComponentLink1URL: http://www.infineon.com/; ComponentLink2Description: Datasheet; ComponentLink2URL: http://www.infineon.com/dgdl/IDW10S120_Rev+2.pdf?folderId=db3a304314dca38901151224afae0c96&fileId=db3a304336724dc40136789691a04aa5; ComponentLink3Description: Package Specification; ComponentLink3URL: http://www.infineon.com/dgdl/IDW10S120_Rev+2.pdf?folderId=db3a304314dca38901151224afae0c96&fileId=db3a304336724dc40136789691a04aa5
footprint INF-PG-TO247-3-44_A (FM, 3-Leads, Body 15.915x5.02mm, Pitch 5.44mm)
pins: 1 NC, 2 K, 3 A

## IDW12G65C5
designator D?
5th Generation ThinQ SiC Schottky Diode, -55 to 175 degC, PG-TO247-3-44, Tube, Green; Manufacturer: Infineon; PartNumber: IDW12G65C5; CT (typ): 370 pF; IF (typ): 12 A; IF,SM (max): 71 A; IR (max): 100 uA; Ptot (max): 76 W; QC (typ): 18 nC; RthJC (max): 2 K/W; VDC: 650 V; VF (typ): 1.5 V; DatasheetVersion: Rev. 2.2; PackageVersion: Rev. 05, 07/2010; PackageReference: PG-TO247-3-44_A; PackageDescription: 3-Pin Plastic (Green) Transistor Single Outline Package, Body 15.915 x 20.95 mm, Pitch 5.44 mm; Supplier 1: Digi-Key; Supplier Part Number 1: IDW12G65C5-ND; Packing: Tube; Technology: thinQ! 5G; Mounting Technology: Through Hole; ComponentLink1Description: Manufacturer URL; ComponentLink1URL: http://www.infineon.com/; ComponentLink2Description: Datasheet; ComponentLink2URL: http://www.infineon.com/dgdl/IDW12G65C5_Final_Datasheet_v2_2.pdf?folderId=db3a304314dca38901151224afae0c96&fileId=db3a30433899edae0138a4699ca7206f; ComponentLink3Description: Package Specification; ComponentLink3URL: http://www.infineon.com/dgdl/IDW10S120_Rev+2.pdf?folderId=db3a304314dca38901151224afae0c96&fileId=db3a304336724dc40136789691a04aa5
footprint INF-PG-TO247-3-44_A (FM, 3-Leads, Body 15.915x5.02mm, Pitch 5.44mm)
pins: 1 NC, 2 K, 3 A

## IDW15G120C5B
designator D?
5th Generation thinQ!(TM) SiC Schottky Diode, 1200 V VDC, 7.5 / 15 A IF, -55 to 175 degC, PG-TO247-3, Tube, Green; Manufacturer: Infineon; PartNumber: IDW15G120C5B; CT (typ): 525 / 1,050 pF; Green: TRUE; IF,SM (max): 85 / 170 A; IR (max): 62 / 124 uA; Ptot (max): 100 / 200 W; QC (typ): 41 / 82 nC; RthJC (max): 1.5 / 0.8 K/W; VDC: 1,200 V; VF (typ): 1.4 V; DatasheetVersion: Rev. 2.0; PackageVersion: Oct-08; PackageReference: PG-TO247-3-21; PackageDescription: 3-Pin Plastic (Green) Transistor Single Outline Package, 15.87 x 20.96 mm Body, 5.44 mm Pitch; Halogen-free: TRUE; IF (typ): 7.5 / 15 A; Packing: Tube; Technology: thinQ!(TM) 5G (SiC-Schottky); Mounting Technology: Through Hole; ComponentLink1Description: Manufacturer URL; ComponentLink1URL: http://www.infineon.com/; ComponentLink2Description: Datasheet; ComponentLink2URL: http://www.infineon.com/dgdl/20140610_IDW15G120C5_Final_Datasheet.pdf?folderId=db3a304314dca38901151224afae0c96&fileId=5546d461464245d30146955307626a15; ComponentLink3Description: Package Specification; ComponentLink3URL: http://www.infineon.com/dgdl/PG-TO247-3-21-Package_Overview.pdf?folderId=db3a30431c69a49d011cd7f31bc41373&fileId=db3a30431c69a49d011cd7f9c0791388
footprint INF-PG-TO247-3-21 (FM, 3-Leads, Body 5.03x15.9mm, Pitch 5.45mm)
pins: 1 A, 2 K, 3 A

## IDW15S120
designator D?
ThinQ SiC Schottky Diode, -55 to 175 degC, PG-TO247-3-44, Tube, Green; Manufacturer: Infineon; PartNumber: IDW15S120; CT (typ): 870 pF; IF (typ): 15 A; IF,SM (max): 73 A; IR (max): 305 uA; Ptot (max): 150 W; QC (typ): 55 nC; RthJC (max): 1 K/W; VDC: 1,200 V; VF (typ): 1.5 V; DatasheetVersion: Rev. 2.0; PackageVersion: Rev. 05, 07/2010; PackageReference: PG-TO247-3-44_A; PackageDescription: 3-Pin Plastic (Green) Transistor Single Outline Package, Body 15.915 x 20.95 mm, Pitch 5.44 mm; Packing: Tube; Technology: thinQ! 2G; Mounting Technology: Through Hole; ComponentLink1Description: Manufacturer URL; ComponentLink1URL: http://www.infineon.com/; ComponentLink2Description: Datasheet; ComponentLink2URL: http://www.infineon.com/dgdl/IDW15S120_Rev+2.pdf?folderId=db3a304314dca38901151224afae0c96&fileId=db3a304336724dc4013677f8f91a47f3; ComponentLink3Description: Package Specification; ComponentLink3URL: http://www.infineon.com/dgdl/IDW10S120_Rev+2.pdf?folderId=db3a304314dca38901151224afae0c96&fileId=db3a304336724dc40136789691a04aa5
footprint INF-PG-TO247-3-44_A (FM, 3-Leads, Body 15.915x5.02mm, Pitch 5.44mm)
pins: 1 NC, 2 K, 3 A

## IDW16G65C5
designator D?
5th Generation ThinQ SiC Silicon Carbide Diode, -55 to 175 degC, PG-TO247-3-44, Tube, Green; Manufacturer: Infineon; PartNumber: IDW16G65C5; CT (typ): 490 pF; IF (typ): 16 A; IF,SM (max): 95 A; IR (max): 150 uA; Ptot (max): 94 W; QC (typ): 23 nC; RthJC (max): 1.6 K/W; VDC: 650 V; VF (typ): 1.5 V; DatasheetVersion: Rev. 2.2; PackageVersion: Rev. 05, 07/2010; PackageReference: PG-TO247-3-44_A; PackageDescription: 3-Pin Plastic (Green) Transistor Single Outline Package, Body 15.915 x 20.95 mm, Pitch 5.44 mm; Supplier 1: Digi-Key; Supplier Part Number 1: IDW16G65C5-ND; Packing: Tube; Technology: thinQ! 5G; Mounting Technology: Through Hole; ComponentLink1Description: Manufacturer URL; ComponentLink1URL: http://www.infineon.com/; ComponentLink2Description: Datasheet; ComponentLink2URL: http://www.infineon.com/dgdl/IDW16G65C5_Final_Datasheet_v2_2.pdf?folderId=db3a30431d8a6b3c011dbeca72db281a&fileId=db3a30433899edae0138a478b3db208c; ComponentLink3Description: Package Specification; ComponentLink3URL: http://www.infineon.com/dgdl/IDW10S120_Rev+2.pdf?folderId=db3a304314dca38901151224afae0c96&fileId=db3a304336724dc40136789691a04aa5
footprint INF-PG-TO247-3-44_A (FM, 3-Leads, Body 15.915x5.02mm, Pitch 5.44mm)
pins: 1 NC, 2 K, 3 A

## IDW20G65C5
designator D?
5th Generation ThinQ SiC Schottky Diode, -55 to 175 degC, PG-TO247-3-44, Tube, Green; Manufacturer: Infineon; PartNumber: IDW20G65C5; CT (typ): 610 pF; IF (typ): 20 A; IF,SM (max): 103 A; IR (max): 190 uA; Ptot (max): 112 W; QC (typ): 29 nC; RthJC (max): 1.3 K/W; VDC: 650 V; VF (typ): 1.5 V; DatasheetVersion: Rev. 2.2; PackageVersion: Rev. 05, 07/2010; PackageReference: PG-TO247-3-44_A; PackageDescription: 3-Pin Plastic (Green) Transistor Single Outline Package, Body 15.915 x 20.95 mm, Pitch 5.44 mm; Supplier 1: Digi-Key; Supplier Part Number 1: IDW20G65C5-ND; Packing: Tube; Technology: thinQ! 5G; Mounting Technology: Through Hole; ComponentLink1Description: Manufacturer URL; ComponentLink1URL: http://www.infineon.com/; ComponentLink2Description: Datasheet; ComponentLink2URL: http://www.infineon.com/dgdl/IDW20G65C5_Final_Datasheet_v2_2.pdf?folderId=db3a304314dca38901151224afae0c96&fileId=db3a30433899edae0138a4aad88f21b5; ComponentLink3Description: Package Specification; ComponentLink3URL: http://www.infineon.com/dgdl/IDW10S120_Rev+2.pdf?folderId=db3a304314dca38901151224afae0c96&fileId=db3a304336724dc40136789691a04aa5
footprint INF-PG-TO247-3-44_A (FM, 3-Leads, Body 15.915x5.02mm, Pitch 5.44mm)
pins: 1 NC, 2 K, 3 A

## IDW20G120C5B
designator D?
5th Generation thinQ!(TM) SiC Schottky Diode, 1200 V VDC, 10 / 20 A IF, -55 to 175 degC, PG-TO247-3, Tube, Green; Manufacturer: Infineon; PartNumber: IDW20G120C5B; CT (typ): 684 / 1,368 pF; Green: TRUE; IF (typ): 10 / 20 A; IF,SM (max): 95 / 190 A; IR (max): 83 / 166 uA; Ptot (max): 125 / 250 W; QC (typ): 53 / 106 nC; RthJC (max): 0.6 / 1.2  K/W; VDC: 1,200 V; VF (typ): 1.4 V; DatasheetVersion: Rev. 2.0; PackageVersion: Oct-08; PackageReference: PG-TO247-3-21; PackageDescription: 3-Pin Plastic (Green) Transistor Single Outline Package, 15.87 x 20.96 mm Body, 5.44 mm Pitch; Halogen-free: TRUE; Packing: Tube; Technology: thinQ!(TM) 5G (SiC-Schottky); Mounting Technology: Through Hole; ComponentLink1Description: Manufacturer URL; ComponentLink1URL: http://www.infineon.com/; ComponentLink2Description: Datasheet; ComponentLink2URL: http://www.infineon.com/dgdl/20140610_IDW20G120C5_Final_Datasheet.pdf?folderId=db3a304314dca38901151224afae0c96&fileId=5546d461464245d3014695635f956a3f; ComponentLink3Description: Package Specification; ComponentLink3URL: http://www.infineon.com/dgdl/PG-TO247-3-21-Package_Overview.pdf?folderId=db3a30431c69a49d011cd7f31bc41373&fileId=db3a30431c69a49d011cd7f9c0791388
footprint INF-PG-TO247-3-21 (FM, 3-Leads, Body 5.03x15.9mm, Pitch 5.45mm)
pins: 1 A, 2 K, 3 A

## IDW20S120
designator D?
ThinQ SiC Schottky Diode, -55 to 175 degC, PG-TO247-3-44, Tube, Green; Manufacturer: Infineon; PartNumber: IDW20S120; CT (typ): 580 pF, 1,160 pF; IF (typ): 20 A; IF,SM (max): 53 A, 106 A; IR (max): 240 uA, 480 uA; Ptot (max): 115 W, 230 W; QC (typ): 72 nC; RthJC (max): 1.3 K/W, 0.65 K/W; VDC: 1,200 V; VF (typ): 1.5 V; DatasheetVersion: Rev. 2.0; PackageVersion: Rev. 05, 07/2010; PackageReference: PG-TO247-3-44_A; PackageDescription: 3-Pin Plastic (Green) Transistor Single Outline Package, Body 15.915 x 20.95 mm, Pitch 5.44 mm; Packing: Tube; Technology: thinQ! 2G; Mounting Technology: Through Hole; ComponentLink1Description: Manufacturer URL; ComponentLink1URL: http://www.infineon.com/; ComponentLink2Description: Datasheet; ComponentLink2URL: http://www.infineon.com/dgdl/IDW20S120_Rev2.pdf?folderId=db3a304314dca38901151224afae0c96&fileId=db3a304336724dc4013678241c12486c; ComponentLink3Description: Package Specification; ComponentLink3URL: http://www.infineon.com/dgdl/IDW10S120_Rev+2.pdf?folderId=db3a304314dca38901151224afae0c96&fileId=db3a304336724dc40136789691a04aa5
footprint INF-PG-TO247-3-44_A (FM, 3-Leads, Body 15.915x5.02mm, Pitch 5.44mm)
pins: 1 A, 2 K, 3 A

## IDW30G65C5
designator D?
5th Generation ThinQ SiC Silicon Carbide Diode, -55 to 175 degC, PG-TO247-3-44, Tube, Green; Manufacturer: Infineon; PartNumber: IDW30G65C5; CT (typ): 910 pF; IF (typ): 30 A; IF,SM (max): 165 A; IR (max): 270 uA; Ptot (max): 150 W; QC (typ): 42 nC; RthJC (max): 1 K/W; VDC: 650 V; VF (typ): 1.5 V; DatasheetVersion: Rev. 2.2; PackageVersion: Rev. 05, 07/2010; PackageReference: PG-TO247-3-44_A; PackageDescription: 3-Pin Plastic (Green) Transistor Single Outline Package, Body 15.915 x 20.95 mm, Pitch 5.44 mm; Supplier 1: Digi-Key; Supplier Part Number 1: IDW30G65C5-ND; Packing: Tube; Technology: thinQ! 5G; Mounting Technology: Through Hole; ComponentLink1Description: Manufacturer URL; ComponentLink1URL: http://www.infineon.com/; ComponentLink2Description: Datasheet; ComponentLink2URL: http://www.infineon.com/dgdl/IDW30G65C5_Final_Datasheet_v2_2.pdf?folderId=db3a304314dca38901151224afae0c96&fileId=db3a30433899edae0138a4b3a2b221ca; ComponentLink3Description: Package Specification; ComponentLink3URL: http://www.infineon.com/dgdl/IDW10S120_Rev+2.pdf?folderId=db3a304314dca38901151224afae0c96&fileId=db3a304336724dc40136789691a04aa5
footprint INF-PG-TO247-3-44_A (FM, 3-Leads, Body 15.915x5.02mm, Pitch 5.44mm)
pins: 1 NC, 2 K, 3 A

## IDW30G120C5B
designator D?
5th Generation thinQ!(TM) SiC Schottky Diode, 1200 V VDC, 15 / 30 A IF, -55 to 175 degC, PG-TO247-3, Tube, Green; Manufacturer: Infineon; PartNumber: IDW30G120C5B; CT (typ): 990 / 1,980 pF; Green: TRUE; IF (typ): 15 / 30 A; IF,SM (max): 120 / 240 A; IR (max): 124 / 248 uA; Ptot (max): 166 / 332 W; QC (typ): 77 / 154 nC; RthJC (max): 0.9 / 0.5 K/W; VDC: 1,200 V; VF (typ): 1.4 V; DatasheetVersion: Rev. 2.0; PackageVersion: Oct-08; PackageReference: PG-TO247-3-21; PackageDescription: 3-Pin Plastic (Green) Transistor Single Outline Package, 15.87 x 20.96 mm Body, 5.44 mm Pitch; Halogen-free: TRUE; Packing: Tube; Technology: thinQ!(TM) 5G (SiC-Schottky); Mounting Technology: Through Hole; ComponentLink1Description: Manufacturer URL; ComponentLink1URL: http://www.infineon.com/; ComponentLink2Description: Datasheet; ComponentLink2URL: http://www.infineon.com/dgdl/20140610_IDW30G120C5_Final_Datasheet.pdf?folderId=db3a304314dca38901151224afae0c96&fileId=5546d461464245d30146956f595b6a6b; ComponentLink3Description: Package Specification; ComponentLink3URL: http://www.infineon.com/dgdl/PG-TO247-3-21-Package_Overview.pdf?folderId=db3a30431c69a49d011cd7f31bc41373&fileId=db3a30431c69a49d011cd7f9c0791388
footprint INF-PG-TO247-3-21 (FM, 3-Leads, Body 5.03x15.9mm, Pitch 5.45mm)
pins: 1 A, 2 K, 3 A

## IDW30S120
designator D?
ThinQ SiC Schottky Diode, -55 to 175 degC, PG-TO247-3-44, Tube, Green; Manufacturer: Infineon; PartNumber: IDW30S120; CT (typ): 870 pF, 1,740 pF; IF (typ): 30 A; IF,SM (max): 73 A,146 A; IR (max): 305 uA, 610 uA; Ptot (max): 150 W, 300 W; QC (typ): 110 nC; RthJC (max): 1 K/W, 0.5 K/W; VDC: 1,200 V; VF (typ): 1.5 V; DatasheetVersion: Rev. 2.0; PackageVersion: Rev. 05, 07/2010; PackageReference: PG-TO247-3-44_A; PackageDescription: 3-Pin Plastic (Green) Transistor Single Outline Package, Body 15.915 x 20.95 mm, Pitch 5.44 mm; Packing: Tube; Technology: thinQ! 2G; Mounting Technology: Through Hole; ComponentLink1Description: Manufacturer URL; ComponentLink1URL: http://www.infineon.com/; ComponentLink2Description: Datasheet; ComponentLink2URL: http://www.infineon.com/dgdl/IDW30S120_Rev+2.pdf?folderId=db3a304314dca38901151224afae0c96&fileId=db3a304336724dc401367881a04849c1; ComponentLink3Description: Package Specification; ComponentLink3URL: http://www.infineon.com/dgdl/IDW10S120_Rev+2.pdf?folderId=db3a304314dca38901151224afae0c96&fileId=db3a304336724dc40136789691a04aa5
footprint INF-PG-TO247-3-44_A (FM, 3-Leads, Body 15.915x5.02mm, Pitch 5.44mm)
pins: 1 A, 2 K, 3 A

## IDW40G65C5
designator D?
5th Generation ThinQ SiC Schottky Diode, -55 to 175 degC, PG-TO247-3-44, Tube, Green; Manufacturer: Infineon; PartNumber: IDW40G65C5; CT (typ): 1,210 pF; IF (typ): 40 A; IF,SM (max): 182 A; IR (max): 360 uA; Ptot (max): 183 W; QC (typ): 55 nC; RthJC (max): 0.8 K/W; VDC: 650 V; VF (typ): 1.5 V; DatasheetVersion: Rev. 2.2; PackageVersion: Rev. 05, 07/2010; PackageReference: PG-TO247-3-44_A; PackageDescription: 3-Pin Plastic (Green) Transistor Single Outline Package, Body 15.915 x 20.95 mm, Pitch 5.44 mm; Supplier 1: Digi-Key; Supplier Part Number 1: IDW40G65C5-ND; Packing: Tube; Technology: thinQ! 5G; Mounting Technology: Through Hole; ComponentLink1Description: Manufacturer URL; ComponentLink1URL: http://www.infineon.com/; ComponentLink2Description: Datasheet; ComponentLink2URL: http://www.infineon.com/dgdl/IDW40G65C5_Final_Datasheet_v2_2.pdf?folderId=db3a304314dca38901151224afae0c96&fileId=db3a30433899edae0138a4c399d32237; ComponentLink3Description: Package Specification; ComponentLink3URL: http://www.infineon.com/dgdl/IDW10S120_Rev+2.pdf?folderId=db3a304314dca38901151224afae0c96&fileId=db3a304336724dc40136789691a04aa5
footprint INF-PG-TO247-3-44_A (FM, 3-Leads, Body 15.915x5.02mm, Pitch 5.44mm)
pins: 1 NC, 2 K, 3 A

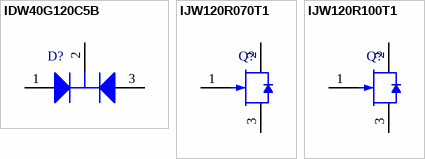
[diagram p2: symbols IDW40G120C5B to IJW120R100T1]

## IDW40G120C5B
designator D?
5th Generation thinQ!(TM) SiC Schottky Diode, 1200 V VDC, 20 / 40 A IF, -55 to 175 degC, PG-TO247-3, Tube, Green; Manufacturer: Infineon; PartNumber: IDW40G120C5B; CT (typ): 1296 / 2,592 pF; Green: TRUE; IF (typ): 20 / 40 A; IF,SM (max): 145 / 290 A; IR (max): 166 / 332 uA; Ptot (max): 201 / 402 W; QC (typ): 101 / 202 nC; RthJC (max): 0.8 / 0.4 K/W; VDC: 1,200 V; VF (typ): 1.4 V; DatasheetVersion: Rev. 2.0; PackageVersion: Oct-08; PackageReference: PG-TO247-3-21; PackageDescription: 3-Pin Plastic (Green) Transistor Single Outline Package, 15.87 x 20.96 mm Body, 5.44 mm Pitch; Halogen-free: TRUE; Packing: Tube; Technology: thinQ!(TM) 5G (SiC-Schottky); Mounting Technology: Through Hole; ComponentLink1Description: Manufacturer URL; ComponentLink1URL: http://www.infineon.com/; ComponentLink2Description: Datasheet; ComponentLink2URL: http://www.infineon.com/dgdl/20140610_IDW40G120C5_Final_Data_sheet.pdf?folderId=db3a304314dca38901151224afae0c96&fileId=5546d461464245d30146957cf8a66a8d; ComponentLink3Description: Package Specification; ComponentLink3URL: http://www.infineon.com/dgdl/PG-TO247-3-21-Package_Overview.pdf?folderId=db3a30431c69a49d011cd7f31bc41373&fileId=db3a30431c69a49d011cd7f9c0791388
footprint INF-PG-TO247-3-21 (FM, 3-Leads, Body 5.03x15.9mm, Pitch 5.45mm)
pins: 1 A, 2 K, 3 A

## IJW120R070T1
designator Q?
Silicon Carbide JFET, 1200 V VDS, -55 to 175 degC, PG-TO247-3, Tube, Green; Manufacturer: Infineon; PartNumber: IJW120R070T1; Co(er): 120 pF; Co(tr): 152 pF; Eoss(typ): 38 uJ; Green: TRUE; ID (max): 35 A; IDpuls (max): 114 A; Irrm (typ): 15 A; Ptot (max): 238 W; Qg(typ): 92 nC; Qrr (typ): 120 nC; RDS (on) max: 0.07 Ohm; Rth: 0.63 K/W; VDS (max): 1,200 V; VGS(th) (min): -15 V; VGS(th)(max): -12 V; DatasheetVersion: Rev. 2.0; PackageVersion: Rev. 05, 07/2010; PackageReference: PG-TO247-3-44_A; PackageDescription: 3-Pin Plastic (Green) Transistor Single Outline Package, 15.915 x 20.95 mm Body, 5.44 mm Pitch; Supplier 1: Mouser; Supplier Part Number 1: N/A; Halogen-free: TRUE; Mounting: THT; Packing: Tube; Mounting Technology: Through Hole; ComponentLink1Description: Manufacturer URL; ComponentLink1URL: http://www.infineon.com/; ComponentLink2Description: Datasheet; ComponentLink2URL: http://www.infineon.com/dgdl/IJW120R070T1-final+datasheet+2+0.pdf?folderId=db3a304341e0aed0014203508c870e38&fileId=db3a304341e0aed0014203597c420ec5; ComponentLink3Description: Package Specification; ComponentLink3URL: http://www.infineon.com/dgdl/IJW120R070T1-final+datasheet+2+0.pdf?folderId=db3a304341e0aed0014203508c870e38&fileId=db3a304341e0aed0014203597c420ec5
footprint INF-PG-TO247-3-44_A (FM, 3-Leads, Body 15.915x5.02mm, Pitch 5.44mm)
pins: 1 G, 2 D, 3 S